# Altium footprint library Electromechanicals.PcbLib: 8 footprints
Each footprint in its own frame and in the unit in brackets; x right, y up, seen from the top. Pads: shape width x height; smd on the part's side, far side on the other; paste and mask are expansions set on the pad; w line width, h text height; cw(c..) or ccw(c..) is an arc to the next point about the centre after c.
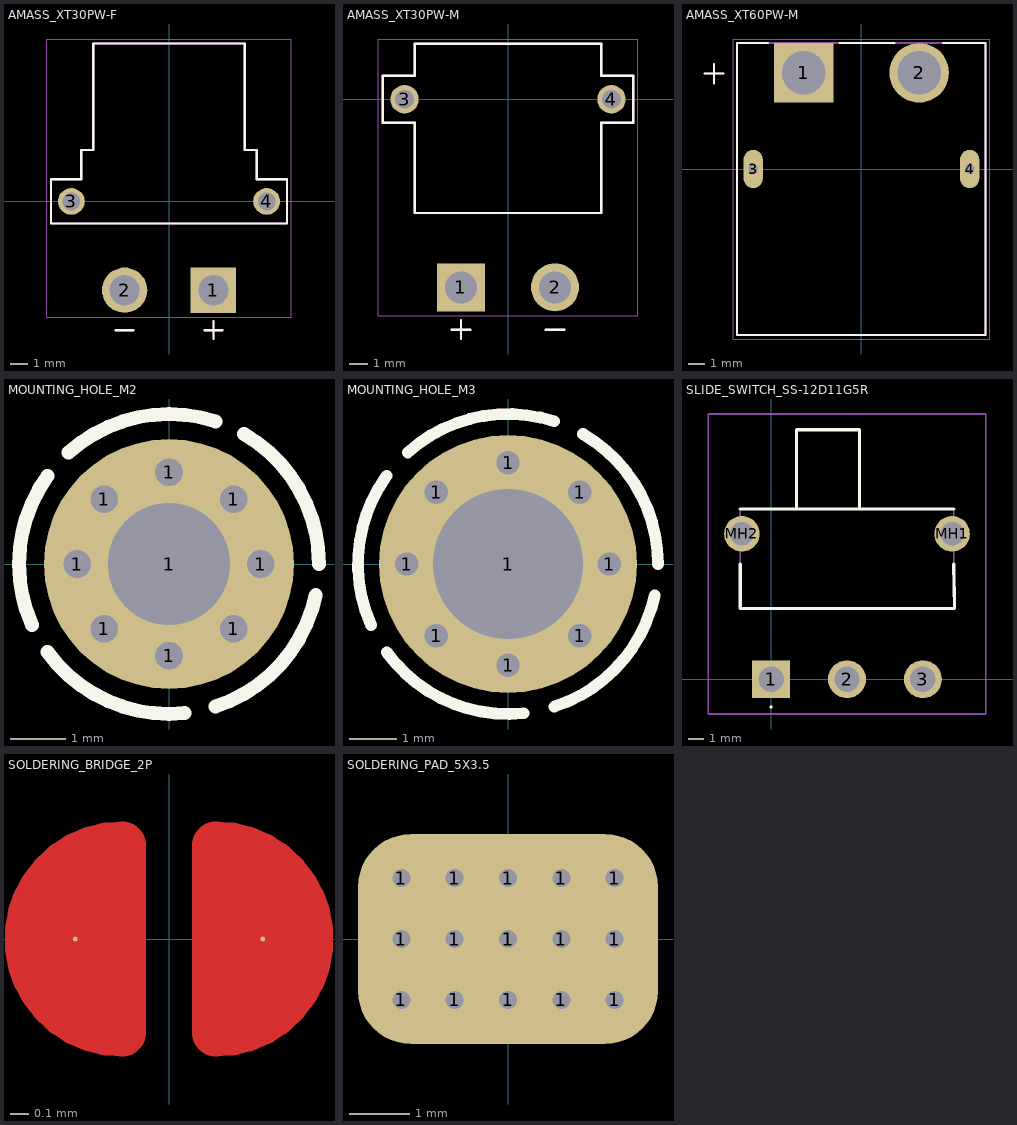
[diagram p0: the footprints below, top view; thin cyan lines are the x and y axes]

## AMASS_XT30PW-F [mm]
height 5
pads (4):
  rect 2.55x2.55 / inner round 2.55 / far side rect 2.55x2.55 hole 1.7: 1(2.5,-5)
  round 2.55 hole 1.7: 2(-2.5,-5)
  round 1.508 hole 1: 3(-5.5,0) 4(5.5,0)
Top Overlay:
  lines w0.127: -3,-7.25 -2,-7.25 ; 2,-7.25 3,-7.25 ; 2.5,-7.75 2.5,-6.75 ; -6.65,-1.25 6.65,-1.25 6.65,1.25 4.95,1.25 4.95,2.9 4.27,2.9 4.27,8.9 -4.27,8.9 -4.27,2.9 -4.95,2.9 -4.95,1.25 -6.65,1.25 -6.65,-1.25
Mechanical 13:
  lines w0.127: -3,-7.25 -2,-7.25 ; 2,-7.25 3,-7.25 ; 2.5,-7.75 2.5,-6.75 ; -6.65,-1.25 6.65,-1.25 6.65,1.25 4.95,1.25 4.95,2.9 4.27,2.9 4.27,8.9 -4.27,8.9 -4.27,2.9 -4.95,2.9 -4.95,1.25 -6.65,1.25 -6.65,-1.25
Mechanical 15:
  lines w0.05: -6.9,-6.525 6.9,-6.525 6.9,9.15 -6.9,9.15 -6.9,-6.525
3D body "step_temp.STEP": height 5, standoff -2, extent -6.65,-6 6.65,8.9

## AMASS_XT30PW-M [mm]
height 5
pads (4):
  rect 2.55x2.55 / inner round 2.55 / far side rect 2.55x2.55 hole 1.7: 1(-2.5,-10)
  round 2.55 hole 1.7: 2(2.5,-10)
  round 1.508 hole 1: 3(-5.5,0) 4(5.5,0)
Top Overlay:
  lines w0.127: -3,-12.25 -2,-12.25 ; -2.5,-12.75 -2.5,-11.75 ; 2,-12.25 3,-12.25 ; -6.65,-1.25 -4.95,-1.25 -4.95,-6.05 4.95,-6.05 4.95,-1.25 6.65,-1.25 6.65,1.25 4.95,1.25 4.95,2.95 -4.95,2.95 -4.95,1.25 -6.65,1.25 -6.65,-1.25
Top Designator:
  text ".Designator" at -7.618,-5.302 h1.52
Mechanical 13:
  lines w0.127: -3,-12.25 -2,-12.25 ; -2.5,-12.75 -2.5,-11.75 ; 2,-12.25 3,-12.25 ; -6.65,-1.25 -4.95,-1.25 -4.95,-6.05 4.95,-6.05 4.95,-1.25 6.65,-1.25 6.65,1.25 4.95,1.25 4.95,2.95 -4.95,2.95 -4.95,1.25 -6.65,1.25 -6.65,-1.25
Mechanical 15:
  lines w0.05: -6.9,-11.525 -6.9,3.2 6.9,3.2 6.9,-11.525 -6.9,-11.525
3D body "step_temp.STEP": height 5, standoff -2, extent -6.65,-11 6.65,2.95

## AMASS_XT60PW-M [mm]
height 8.4
pads (4):
  rect 3.716x3.716 / inner round 3.716 / far side rect 3.716x3.716 hole 2.7 mask+0.102: 1(-3.6,6)
  round 3.716 hole 2.7 mask+0.102: 2(3.6,6)
  oval 1.2x2.4 hole 0.6 square mask+0.102: 3(-6.75,0) 4(6.75,0)
Top Overlay:
  lines w0.127: -9.8,5.95 -8.6,5.95 ; -9.2,5.35 -9.2,6.55 ; -5.828,7.85 -7.75,7.85 -7.75,-10.35 7.75,-10.35 7.75,7.85 5.078,7.85 ; -1.372,7.85 2.072,7.85
Top Designator:
  text ".Designator" at -8.537,-1.753 h1.52
Mechanical 13:
  lines w0.127: -9.8,5.95 -8.6,5.95 ; -9.2,5.35 -9.2,6.55 ; -7.75,-10.35 -7.75,7.85 7.75,7.85 7.75,-10.35 -7.75,-10.35
Mechanical 15:
  lines w0.05: -8,-10.6 -8,8.11 8,8.11 8,-10.6 -8,-10.6
3D body "step_temp.STEP": height 8.4, standoff -2.55, extent -7.75,-10.35 7.75,7.85

## MOUNTING_HOLE_M2 [mm]
pads (9):
  round 0.5 hole 0.5: 1(-1.651,0) 1(-1.167,-1.167) 1(-1.167,1.167) 1(0,-1.651) 1(0,1.651) 1(1.167,-1.167) 1(1.167,1.167) 1(1.651,0)
  round 4.5 hole 2.2 mask-2539.97: 1(0,0)
Top Overlay:
  lines w0.25: -2.467,-1.098 cw(c0,0) -2.184,1.587 ; -2.184,-1.587 ccw(c0,0) 0.282,-2.685 ; -1.807,2.006 cw(c0,0) 0.834,2.568 ; 0.834,-2.568 ccw(c0,0) 2.641,-0.561 ; 1.35,2.338 cw(c0,0) 2.7,0
Top Solder:
  circle w2.375: c0,0 r1.187
Bottom Solder:
  circle w2.375: c0,0 r1.187

## MOUNTING_HOLE_M3 [mm]
pads (9):
  round 0.5 hole 0.5: 1(-2.159,0) 1(-1.527,-1.527) 1(-1.527,1.527) 1(0,-2.159) 1(0,2.159) 1(1.527,-1.527) 1(1.527,1.527) 1(2.159,0)
  round 5.5 hole 3.2 mask-2539.97: 1(0,0)
Top Overlay:
  lines w0.25: -2.923,-1.302 cw(c0,0) -2.589,1.881 ; -2.589,-1.881 ccw(c0,0) 0.334,-3.182 ; -2.141,2.378 cw(c0,0) 0.989,3.043 ; 0.989,-3.043 ccw(c0,0) 3.13,-0.665 ; 1.6,2.771 cw(c0,0) 3.2,0
Top Solder:
  circle w2.875: c0,0 r1.438
Bottom Solder:
  circle w2.875: c0,0 r1.438

## SLIDE_SWITCH_SS-12D11G5R [mm]
pads (5):
  rect 2.4x2.4 hole 1.6: 1(0,0)
  round 2.4 hole 1.6: 2(4.8,0) 3(9.6,0)
  round 2.25 hole 1.5: MH1(11.45,9.2) MH2(-1.85,9.2)
Top Overlay:
  lines w0.1: 0,-1.8 ccw(c0,-1.75) 0,-1.7 ccw(c0,-1.75) 0,-1.8
  lines w0.2: -1.95,7.28 -1.95,4.48 11.6,4.48 11.55,7.28 ; -1.95,10.78 11.55,10.78 ; 1.6,10.78 1.6,15.78 5.6,15.78 5.6,10.78
Top Designator:
  text ".Designator" at -2.818,6.782 h1.52
Mechanical 13:
  lines w0.1: 1.6,10.78 1.6,15.78 5.6,15.78 5.6,10.78 ; -1.95,4.48 11.55,4.48 11.55,10.78 -1.95,10.78 -1.95,4.48
Mechanical 15:
  lines w0.1: -3.975,-2.2 13.575,-2.2 13.575,16.78 -3.975,16.78 -3.975,-2.2
3D body "SS-12D11G5R.stp": height 6.93, standoff -2.86, extent -1.953,-0.663 11.546,15.787

## SOLDERING_BRIDGE_2P [mil]
pads (2):
  round 1 smd: 1(-19.68,0) 2(19.68,0)
Top Layer:
  region: 9.84,-19.68 9.84,19.68 11.78,19.68 15.58,18.93 19.17,17.44 22.39,15.29 25.13,12.55 27.29,9.32 28.77,5.74 29.53,1.94 29.53,-1.94 28.77,-5.74 27.29,-9.32 25.13,-12.55 22.39,-15.29 19.17,-17.44 15.58,-18.93 11.78,-19.68
  region: -9.84,-19.68 -11.78,-19.68 -15.58,-18.93 -19.17,-17.44 -22.39,-15.29 -25.13,-12.55 -27.29,-9.32 -28.77,-5.74 -29.53,-1.94 -29.53,1.94 -28.77,5.74 -27.29,9.32 -25.13,12.55 -22.39,15.29 -19.17,17.44 -15.58,18.93 -11.78,19.68 -9.84,19.68
  lines w10: -9.84,-19.68 cw(c-9.84,0) -9.84,19.68 -9.84,-19.68 ; 9.84,-19.68 ccw(c9.84,0) 9.84,19.68 9.84,-19.68
Top Solder:
  region: -9.84,-19.68 9.84,-19.68 13.76,-19.68 20.99,-16.69 26.53,-11.15 29.53,-3.92 29.53,3.92 26.53,11.15 20.99,16.69 13.76,19.68 9.84,19.68 -9.84,19.68 -13.76,19.68 -20.99,16.69 -26.53,11.15 -29.53,3.92 -29.53,-3.92 -26.53,-11.15 -20.99,-16.69 -13.76,-19.68
  lines w10: -9.84,-21.65 cw(c-9.84,0) -9.84,21.65 9.84,21.65 cw(c9.84,0) 9.84,-21.65 -9.84,-21.65

## SOLDERING_PAD_5X3.5 [mm]
pads (16):
  round 0.6 hole 0.3 mask+0: 1(-1.778,-1.016) 1(-1.778,0) 1(-1.778,1.016) 1(-0.889,-1.016) 1(-0.889,0) 1(-0.889,1.016) 1(0,-1.016) 1(0,0) 1(0,1.016) 1(0.889,-1.016) 1(0.889,0) 1(0.889,1.016) 1(1.778,-1.016) 1(1.778,0) 1(1.778,1.016)
  rrect50% 5x3.5 smd paste-2539.97 mask+0.1: 1(0,0)